# Altium footprint library SWT-6.PcbLib: 1 footprints
Each footprint in its own frame and in the unit in brackets; x right, y up, seen from the top. Pads: shape width x height; smd on the part's side, far side on the other; paste and mask are expansions set on the pad; w line width, h text height; cw(c..) or ccw(c..) is an arc to the next point about the centre after c.
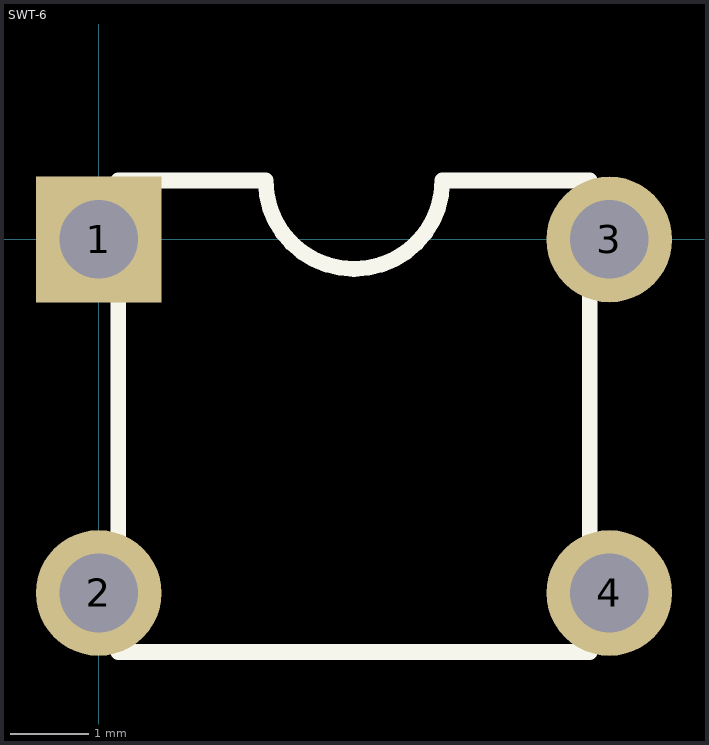
[diagram p0: the footprint, top view; thin cyan lines are the x and y axes]

## SWT-6 [mm]
height 15
pads (4):
  rect 1.6x1.6 hole 1: 1(0,0)
  round 1.6 hole 1: 2(0,-4.5) 3(6.5,0) 4(6.5,-4.5)
Top Overlay:
  lines w0.2: 0.25,0.7 0.25,-5.25 6.25,-5.25 6.25,0.75 4.375,0.75 cw(c3.25,0.75) 2.125,0.75 0.25,0.75
3D body: height 9.5, standoff -3.5, extent -0.856,-5.25 7.356,0.75